# EAGLE library part ARDUINO_SHEILD_EXT (library utft_lcd)
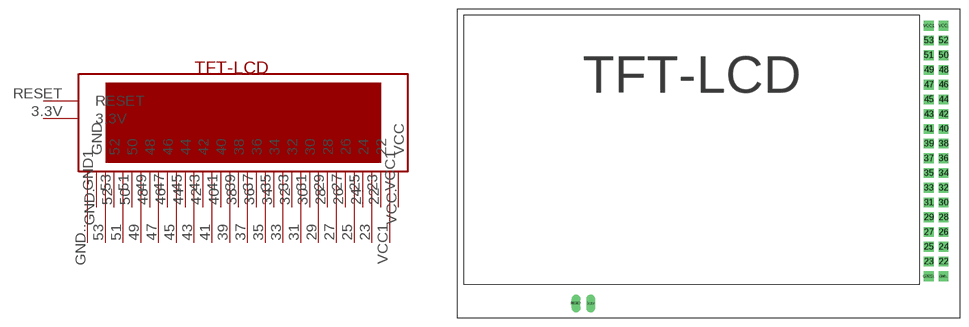
[diagram p0: symbol with the pads of ARDUINO_SHEILD; footprint ARDUINO_SHEILD]

Designator prefix ARDUINO-MEGA-EXT

## ARDUINO_SHEILD_EXT  [ARDUINO_SHEILD]
3.3V  3.3V
22  22
23  23
24  24
25  25
26  26
27  27
28  28
29  29
30  30
31  31
32  32
33  33
34  34
35  35
36  36
37  37
38  38
39  39
40  40
41  41
42  42
43  43
44  44
45  45
46  46
47  47
48  48
49  49
50  50
51  51
52  52
53  53
GND.  GND
GND..  GND1
RESET  RESET
VCC1  VCC1
VCC.  VCC

## Footprint ARDUINO_SHEILD (pad centres in mm)
drill 1 long: 3.3V -14.62,-23.74; RESET -17.16,-23.72
drill 1 pad 1.676 square: 22 46.19,-16.5; 23 43.65,-16.5; 24 46.19,-13.96; 25 43.65,-13.96; 26 46.19,-11.42; 27 43.65,-11.42; 28 46.19,-8.88; 29 43.65,-8.88; 30 46.19,-6.34; 31 43.65,-6.34; 32 46.19,-3.8; 33 43.65,-3.8; 34 46.19,-1.26; 35 43.65,-1.26; 36 46.19,1.28; 37 43.65,1.28; 38 46.19,3.82; 39 43.65,3.82; 40 46.19,6.36; 41 43.65,6.36; 42 46.19,8.9; 43 43.65,8.9; 44 46.19,11.44; 45 43.65,11.44; 46 46.19,13.98; 47 43.65,13.98; 48 46.19,16.52; 49 43.65,16.52; 50 46.19,19.06; 51 43.65,19.06; 52 46.19,21.6; 53 43.65,21.6; GND. 43.65,-19.04; GND.. 46.19,-19.04; VCC1 43.65,24.14; VCC. 46.19,24.14